# EAGLE library part LM92 (library Feesta-parts)
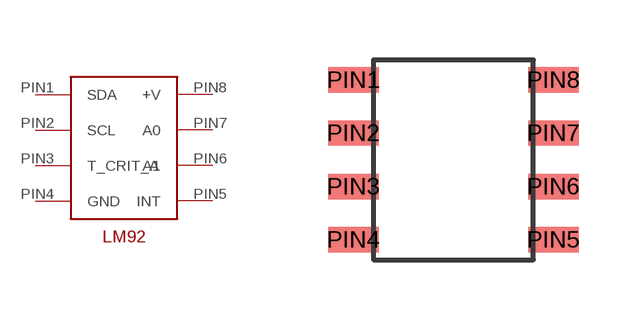
[diagram p2: symbol with the pads of SOP-8; footprint SOP-8]

Designator prefix -

## LM92  [SOP-8]
PIN1  SDA
PIN2  SCL
PIN3  T_CRIT_A
PIN4  GND
PIN5  INT
PIN6  A1
PIN7  A0
PIN8  +V

## Footprint SOP-8 (pad centres in mm)
smd 1.27 x 0.635: PIN1 -2.5,2; PIN2 -2.5,0.67; PIN3 -2.5,-0.67; PIN4 -2.5,-2; PIN5 2.5,-2; PIN6 2.5,-0.67; PIN7 2.5,0.67; PIN8 2.5,2